# Altium schematic symbol library Filters (PH9455_XXXNL).SchLib: 1 symbol
Pins are listed as number, name and electrical type; pins without a type are passive.

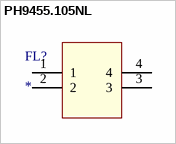
[diagram p0: symbol PH9455.105NL]

## PH9455.105NL
designator FL?
Value: 1 mH; Tolerance: +50%/-30%; Max current: 22A; Temperature range: -40 to +125°C
footprint (PH9455_XXXNL)
pins: 1, 2, 3, 4